# Altium footprint library Resistor_SMD.PcbLib: 49 footprints (part 3 of 4)
Each footprint in its own frame and in the unit in brackets; x right, y up, seen from the top. Pads: shape width x height; smd on the part's side, far side on the other; paste and mask are expansions set on the pad; w line width, h text height; cw(c..) or ccw(c..) is an arc to the next point about the centre after c.
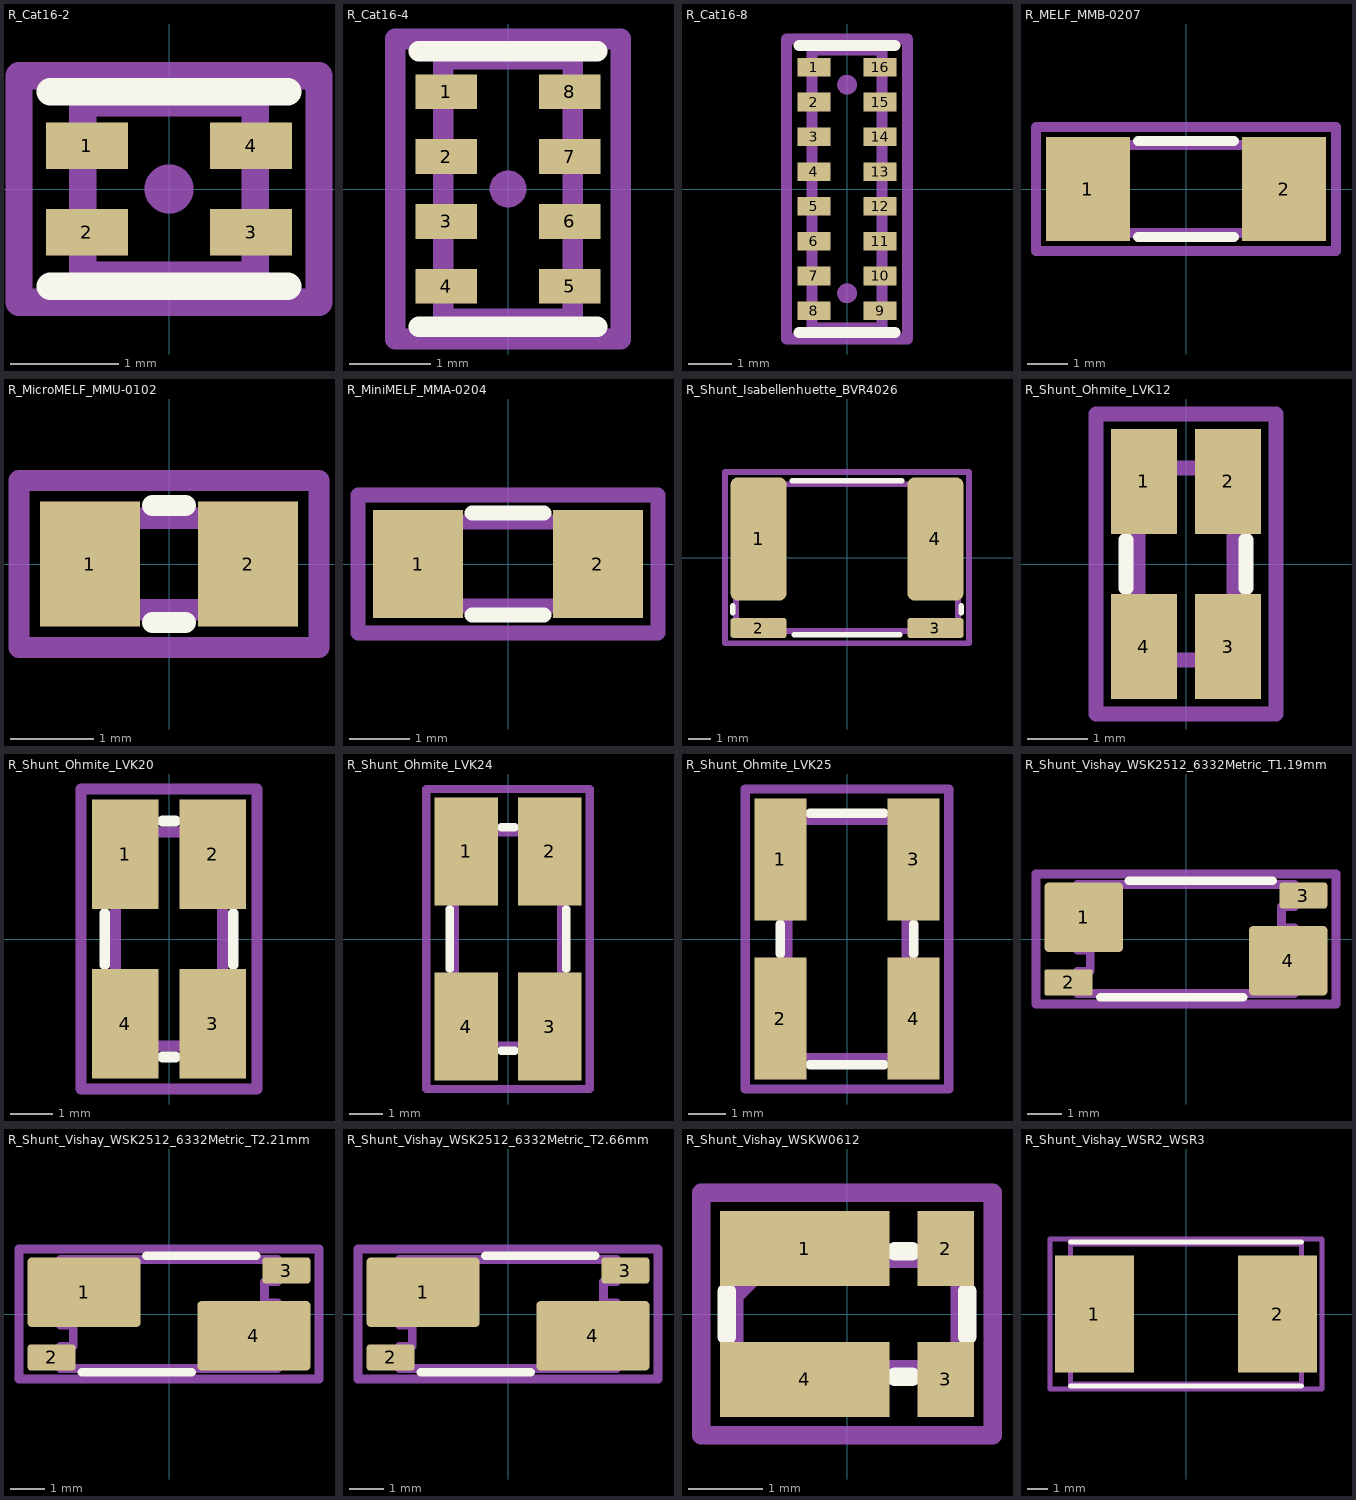
[diagram p2: the footprints below, top view; thin cyan lines are the x and y axes]

## R_Cat16-2 [mm]
pads (4):
  rect 0.76x0.43 smd: 1(-0.76,0.4) 2(-0.76,-0.4) 3(0.76,-0.4) 4(0.76,0.4)
F.SilkS:
  lines w0.254: -1.1,-0.9 1.1,-0.9 ; -1.1,0.9 1.1,0.9
Top Assembly:
  lines w0.254: -0.8,-0.8 0.8,-0.8 0.8,0.8 -0.8,0.8 -0.8,-0.8
  text "'.Designator'" at -4.047,0.91 h1
Top Courtyard:
  lines w0.254: -1.39,-1.05 1.39,-1.05 1.39,1.05 -1.39,1.05 -1.39,-1.05
Top Designator:
  text ".Designator" at -7.768,-0.043 h1.52
Top Glue Points:
  circle w0.254: c0,0 r0.1

## R_Cat16-4 [mm]
pads (8):
  rect 0.76x0.43 smd: 1(-0.76,1.2) 2(-0.76,0.4) 3(-0.76,-0.4) 4(-0.76,-1.2) 5(0.76,-1.2) 6(0.76,-0.4) 7(0.76,0.4) 8(0.76,1.2)
F.SilkS:
  lines w0.254: -1.1,-1.7 1.1,-1.7 ; -1.1,1.7 1.1,1.7
Top Assembly:
  lines w0.254: -0.8,-1.6 0.8,-1.6 0.8,1.6 -0.8,1.6 -0.8,-1.6
  text "'.Designator'" at 0.42,-2.023 h0.5
Top Courtyard:
  lines w0.254: -1.39,-1.85 1.39,-1.85 1.39,1.85 -1.39,1.85 -1.39,-1.85
Top Designator:
  text ".Designator" at -7.618,-0.569 h1.52
Top Glue Points:
  circle w0.254: c0,0 r0.1

## R_Cat16-8 [mm]
pads (16):
  rect 0.76x0.43 smd: 1(-0.76,2.8) 2(-0.76,2) 3(-0.76,1.2) 4(-0.76,0.4) 5(-0.76,-0.4) 6(-0.76,-1.2) 7(-0.76,-2) 8(-0.76,-2.8) 9(0.76,-2.8) 10(0.76,-2) 11(0.76,-1.2) 12(0.76,-0.4) 13(0.76,0.4) 14(0.76,1.2) 15(0.76,2) 16(0.76,2.8)
F.SilkS:
  lines w0.254: -1.1,-3.3 1.1,-3.3 ; -1.1,3.3 1.1,3.3
Top Assembly:
  lines w0.254: -0.8,-3.2 0.8,-3.2 0.8,3.2 -0.8,3.2 -0.8,-3.2
  text "'.Designator'" at 0.84,-4.047 h1
Top Courtyard:
  lines w0.254: -1.39,-3.45 1.39,-3.45 1.39,3.45 -1.39,3.45 -1.39,-3.45
Top Designator:
  text ".Designator" at -7.618,-0.658 h1.52
Top Glue Points:
  circle w0.254: c0,-2.4 r0.1
  circle w0.254: c0,2.4 r0.1

## R_MELF_MMB-0207 [mm]
pads (2):
  rect 2.1x2.6 smd: 1(-2.45,0) 2(2.45,0)
F.SilkS:
  lines w0.254: -1.2,-1.2 1.2,-1.2 ; -1.2,1.2 1.2,1.2
Top Assembly:
  lines w0.254: -1.7,-1.1 -1.7,1.1 ; 1.7,-1.1 1.7,1.1 ; -2.9,-1.1 2.9,-1.1 2.9,1.1 -2.9,1.1 -2.9,-1.1
  text "'.Designator'" at -4.047,-0.84 h1
Top Courtyard:
  lines w0.254: -3.75,-1.55 3.75,-1.55 3.75,1.55 -3.75,1.55 -3.75,-1.55
Top Designator:
  text ".Designator" at -7.768,-0.508 h1.52

## R_MicroMELF_MMU-0102 [mm]
pads (2):
  rect 1.2x1.5 smd: 1(-0.95,0) 2(0.95,0)
F.SilkS:
  lines w0.254: -0.2,-0.7 0.2,-0.7 ; -0.2,0.7 0.2,0.7
Top Assembly:
  lines w0.254: -0.6,-0.55 -0.6,0.55 ; 0.6,-0.55 0.6,0.55 ; -1.1,-0.55 1.1,-0.55 1.1,0.55 -1.1,0.55 -1.1,-0.55
  text "'.Designator'" at -4.047,0.61 h1
Top Courtyard:
  lines w0.254: -1.8,-1 1.8,-1 1.8,1 -1.8,1 -1.8,-1
Top Designator:
  text ".Designator" at -7.768,-0.168 h1.52

## R_MiniMELF_MMA-0204 [mm]
pads (2):
  rect 1.5x1.8 smd: 1(-1.5,0) 2(1.5,0)
F.SilkS:
  lines w0.254: -0.6,-0.85 0.6,-0.85 ; -0.6,0.85 0.6,0.85
Top Assembly:
  lines w0.254: -0.9,-0.7 -0.9,0.7 ; 0.9,-0.7 0.9,0.7 ; -1.8,-0.7 1.8,-0.7 1.8,0.7 -1.8,0.7 -1.8,-0.7
  text "'.Designator'" at -2.458,-0.534 h0.6
Top Courtyard:
  lines w0.254: -2.5,-1.15 2.5,-1.15 2.5,1.15 -2.5,1.15 -2.5,-1.15
Top Designator:
  text ".Designator" at -7.618,-0.508 h1.52

## R_Shunt_Isabellenhuette_BVR4026 [mm]
pads (4):
  rrect25% 2.55x5.6 smd: 1(-4.025,0.85) 4(4.025,0.85)
  rrect25% 2.55x0.9 smd: 2(-4.025,-3.2) 3(4.025,-3.2)
F.SilkS:
  lines w0.254: -5.2,-2.5 -5.2,-2.2 ; -2.5,3.5 2.5,3.5 ; -2.4,-3.5 2.4,-3.5 ; 5.2,-2.5 5.2,-2.2
Top Assembly:
  lines w0.254: -5.05,-3.337 5.05,-3.337 5.05,3.337 -5.05,3.337 -5.05,-3.337
  text "'.Designator'" at -4.047,-0.84 h1
Top Courtyard:
  lines w0.254: -5.55,-3.9 5.55,-3.9 5.55,3.9 -5.55,3.9 -5.55,-3.9
Top Designator:
  text ".Designator" at -7.618,-0.508 h1.52

## R_Shunt_Ohmite_LVK12 [mm]
pads (4):
  rect 1.1x1.75 smd: 1(-0.7,1.375) 2(0.7,1.375) 3(0.7,-1.375) 4(-0.7,-1.375)
F.SilkS:
  lines w0.254: -1,-0.4 -1,0.4 ; 1,-0.4 1,0.4
Top Assembly:
  lines w0.254: -0.8,-1.6 0.8,-1.6 0.8,1.6 -0.8,1.6 -0.8,-1.6
  text "'.Designator'" at 0.614,-2.438 h0.6
Top Courtyard:
  lines w0.254: -1.5,-2.5 1.5,-2.5 1.5,2.5 -1.5,2.5 -1.5,-2.5
Top Designator:
  text ".Designator" at -7.618,-0.508 h1.52

## R_Shunt_Ohmite_LVK20 [mm]
pads (4):
  rect 1.55x2.55 smd: 1(-1.025,1.975) 2(1.025,1.975) 3(1.025,-1.975) 4(-1.025,-1.975)
F.SilkS:
  lines w0.254: -1.5,-0.6 -1.5,0.6 ; -0.15,-2.75 0.15,-2.75 ; -0.15,2.75 0.15,2.75 ; 1.5,-0.6 1.5,0.6
Top Assembly:
  lines w0.254: -1.25,-2.5 0,-2.5 1.25,-2.5 1.25,2.5 -1.25,2.5 -1.25,-2.5
  text "'.Designator'" at 0.89,-4.097 h1
Top Courtyard:
  lines w0.254: -2.05,-3.5 2.05,-3.5 2.05,3.5 -2.05,3.5 -2.05,-3.5
Top Designator:
  text ".Designator" at -7.618,-0.708 h1.52

## R_Shunt_Ohmite_LVK24 [mm]
pads (4):
  rect 1.9x3.25 smd: 1(-1.25,2.625) 2(1.25,2.625) 3(1.25,-2.625) 4(-1.25,-2.625)
F.SilkS:
  lines w0.254: -1.75,-0.9 -1.75,0.9 ; -0.2,-3.35 0.2,-3.35 ; -0.2,3.35 0.2,3.35 ; 1.75,-0.9 1.75,0.9
Top Assembly:
  lines w0.254: -1.6,-3.2 0,-3.2 1.6,-3.2 1.6,3.2 -1.6,3.2 -1.6,-3.2
  text "'.Designator'" at 1.185,-5.995 h1.5
Top Courtyard:
  lines w0.254: -2.45,-4.5 2.45,-4.5 2.45,4.5 -2.45,4.5 -2.45,-4.5
Top Designator:
  text ".Designator" at -7.618,-0.658 h1.52

## R_Shunt_Ohmite_LVK25 [mm]
pads (4):
  rect 1.4x3.3 smd: 1(-1.8,2.15) 2(-1.8,-2.15) 3(1.8,2.15) 4(1.8,-2.15)
F.SilkS:
  lines w0.254: -1.8,-0.4 -1.8,0.4 ; -1,-3.4 1,-3.4 ; -1,3.4 1,3.4 ; 1.8,-0.4 1.8,0.4
Top Assembly:
  lines w0.254: -1.6,-3.2 0,-3.2 1.6,-3.2 1.6,3.2 -1.6,3.2 -1.6,-3.2
  text "'.Designator'" at 1.235,-6.045 h1.5
Top Courtyard:
  lines w0.254: -2.75,-4.05 2.75,-4.05 2.75,4.05 -2.75,4.05 -2.75,-4.05
Top Designator:
  text ".Designator" at -7.618,-0.708 h1.52

## R_Shunt_Vishay_WSK2512_6332Metric_T1.19mm [mm]
pads (4):
  rrect12% 2.29x2.03 smd: 1(-2.985,0.635) 4(2.985,-0.635)
  rrect12% 1.4x0.76 smd: 2(-3.43,-1.27)
  rrect25% 1.4x0.76 smd: 3(3.43,1.27)
F.SilkS:
  lines w0.254: -2.5,-1.7 1.67,-1.7 ; -1.67,1.7 2.53,1.7
Top Assembly:
  lines w0.254: 3.17,0.32 2.79,0.32 2.79,0.94 3.17,0.94 ; 3.175,0.32 3.175,-1.59 -3.175,-1.59 -3.175,-0.94 -2.795,-0.94 -2.795,-0.32 -3.175,-0.32 -3.175,1.59 3.175,1.59 3.175,0.94
  text "'.Designator'" at -4.047,-0.84 h1
Top Courtyard:
  lines w0.254: -4.38,-1.9 4.38,-1.9 4.38,1.9 -4.38,1.9 -4.38,-1.9
Top Designator:
  text ".Designator" at -7.618,-0.508 h1.52

## R_Shunt_Vishay_WSK2512_6332Metric_T2.21mm [mm]
pads (4):
  rrect12% 3.3x2.03 smd: 1(-2.48,0.635) 4(2.48,-0.635)
  rrect25% 1.4x0.76 smd: 2(-3.43,-1.27) 3(3.43,1.27)
F.SilkS:
  lines w0.254: -2.54,-1.7 0.66,-1.7 ; -0.66,1.7 2.54,1.7
Top Assembly:
  lines w0.254: 3.17,0.32 2.79,0.32 2.79,0.94 3.17,0.94 ; 3.175,0.32 3.175,-1.59 -3.175,-1.59 -3.175,-0.94 -2.795,-0.94 -2.795,-0.32 -3.175,-0.32 -3.175,1.59 3.175,1.59 3.175,0.94
  text "'.Designator'" at -4.047,-0.84 h1
Top Courtyard:
  lines w0.254: -4.38,-1.9 4.38,-1.9 4.38,1.9 -4.38,1.9 -4.38,-1.9
Top Designator:
  text ".Designator" at -7.618,-0.508 h1.52

## R_Shunt_Vishay_WSK2512_6332Metric_T2.66mm [mm]
pads (4):
  rrect12% 3.3x2.03 smd: 1(-2.48,0.635) 4(2.48,-0.635)
  rrect25% 1.4x0.76 smd: 2(-3.43,-1.27) 3(3.43,1.27)
F.SilkS:
  lines w0.254: -2.54,-1.7 0.66,-1.7 ; -0.66,1.7 2.54,1.7
Top Assembly:
  lines w0.254: 3.17,0.32 2.79,0.32 2.79,0.94 3.17,0.94 ; 3.175,0.32 3.175,-1.59 -3.175,-1.59 -3.175,-0.94 -2.795,-0.94 -2.795,-0.32 -3.175,-0.32 -3.175,1.59 3.175,1.59 3.175,0.94
  text "'.Designator'" at -4.047,-0.84 h1
Top Courtyard:
  lines w0.254: -4.38,-1.9 4.38,-1.9 4.38,1.9 -4.38,1.9 -4.38,-1.9
Top Designator:
  text ".Designator" at -7.618,-0.508 h1.52

## R_Shunt_Vishay_WSKW0612 [mm]
pads (4):
  rect 2.287x1.01 smd: 1(-0.572,0.885) 4(-0.572,-0.885)
  rect 0.762x1.01 smd: 2(1.334,0.885) 3(1.334,-0.885)
F.SilkS:
  lines w0.254: -1.625,-0.3 -1.625,0.3 ; 0.65,-0.85 0.875,-0.85 ; 0.65,0.85 0.875,0.85 ; 1.625,-0.3 1.625,0.3
Top Assembly:
  lines w0.254: -1.525,-0.75 1.525,-0.75 1.525,0.75 -1.025,0.75 -1.525,0.25 -1.525,-0.75
  text "'.Designator'" at -2.048,-0.445 h0.5
Top Courtyard:
  lines w0.254: -1.97,-1.64 1.97,-1.64 1.97,1.64 -1.97,1.64 -1.97,-1.64
Top Designator:
  text ".Designator" at -7.643,-0.508 h1.52

## R_Shunt_Vishay_WSR2_WSR3 [mm]
pads (2):
  rect 3.94x5.84 smd: 1(-4.575,0) 2(4.575,0)
F.SilkS:
  lines w0.254: -5.78,-3.6 5.78,-3.6 ; -5.78,3.6 5.78,3.6
Top Assembly:
  lines w0.254: -5.78,-3.49 5.78,-3.49 5.78,3.49 -5.78,3.49 -5.78,-3.49
  text "'.Designator'" at -4.047,-0.84 h1
Top Courtyard:
  lines w0.254: -6.8,-3.74 6.8,-3.74 6.8,3.74 -6.8,3.74 -6.8,-3.74
Top Designator:
  text ".Designator" at -7.618,-0.508 h1.52